# EAGLE library part SWD/JTAG-_PINS (library con-SWD)
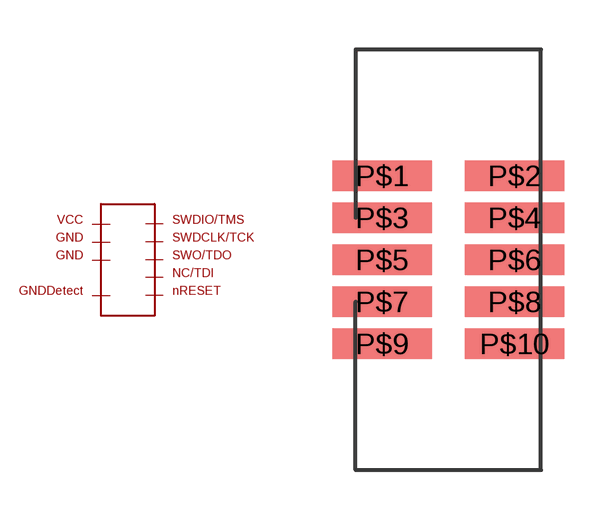
[diagram p1: symbol with the pads of SAMTEC_SHF-105-01-L-D-SM; footprint SAMTEC_SHF-105-01-L-D-SM]

Designator prefix -

## SWD/JTAG-_PINS  [SAMTEC_SHF-105-01-L-D-SM]
P$1  P$1
P$2  P$2
P$3  P$3
P$4  P$4
P$5  P$5
P$6  P$6
P$8  P$8
P$9  P$9
P$10  P$10

## Footprint SAMTEC_SHF-105-01-L-D-SM (pad centres in mm)
smd 3 x 0.914: P$1 -2,2.54; P$2 2,2.54; P$3 -2,1.27; P$4 2,1.27; P$5 -2,0; P$6 2,0; P$7 -2,-1.27; P$8 2,-1.27; P$9 -2,-2.54; P$10 2,-2.54